# EAGLE library part MSX_SLOT_CON (library msx_edge_conn)
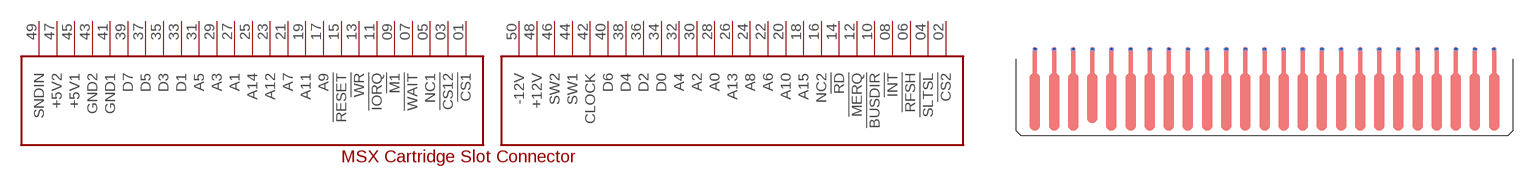
[diagram p0: symbol with the pads of MSX_SLOT_CON; footprint MSX_SLOT_CON]

Designator prefix CN

## MSX_SLOT_CON  [MSX_SLOT_CON]
01  !CS1  out
02  !CS2  out
03  !CS12  out
04  !SLTSL  out
05  NC1  nc
06  !RFSH  out
07  !WAIT  in
08  !INT  in
09  !M1  out
10  !BUSDIR  in
11  !IORQ  out
12  !MERQ  out
13  !WR  out
14  !RD  out
15  !RESET  out
16  NC2  nc
17  A9  out
18  A15  out
19  A11  out
20  A10  out
21  A7  out
22  A6  out
23  A12  out
24  A8  out
25  A14  out
26  A13  out
27  A1  out
28  A0  out
29  A3  out
30  A2  out
31  A5  out
32  A4  out
33  D1
34  D0
35  D3
36  D2
37  D5
38  D4
39  D7
40  D6
41  GND1  sup
42  CLOCK  out
43  GND2  sup
44  SW1  pas
45  +5V1  sup
46  SW2  pas
47  +5V2  sup
48  +12V  sup
49  SNDIN  in
50  -12V  sup

## Footprint MSX_SLOT_CON (pad centres in mm)
smd 0.61 x 0.305 bottom: 01 30.48,11.43; 03 27.94,11.43; 05 25.4,11.43; 07 22.86,11.43; 09 20.32,11.43; 11 17.78,11.43; 13 15.24,11.43; 15 12.7,11.43; 17 10.16,11.43; 19 7.62,11.43; 21 5.08,11.43; 23 2.54,11.43; 25 0,11.43; 27 -2.54,11.43; 29 -5.08,11.43; 31 -7.62,11.43; 33 -10.16,11.43; 35 -12.7,11.43; 37 -15.24,11.43; 39 -17.78,11.43; 41 -20.32,11.43; 43 -22.86,11.43; 45 -25.4,11.43; 47 -27.94,11.43; 49 -30.48,11.43
smd 0.61 x 0.305: 02 30.48,11.43; 04 27.94,11.43; 06 25.4,11.43; 08 22.86,11.43; 10 20.32,11.43; 12 17.78,11.43; 14 15.24,11.43; 16 12.7,11.43; 18 10.16,11.43; 20 7.62,11.43; 22 5.08,11.43; 24 2.54,11.43; 26 0,11.43; 28 -2.54,11.43; 30 -5.08,11.43; 32 -7.62,11.43; 34 -10.16,11.43; 36 -12.7,11.43; 38 -15.24,11.43; 40 -17.78,11.43; 42 -20.32,11.43; 44 -22.86,11.43; 46 -25.4,11.43; 48 -27.94,11.43; 50 -30.48,11.43